# Altium footprint library Optopairs.PcbLib: 1 footprints
Each footprint in its own frame and in the unit in brackets; x right, y up, seen from the top. Pads: shape width x height; smd on the part's side, far side on the other; paste and mask are expansions set on the pad; w line width, h text height; cw(c..) or ccw(c..) is an arc to the next point about the centre after c.
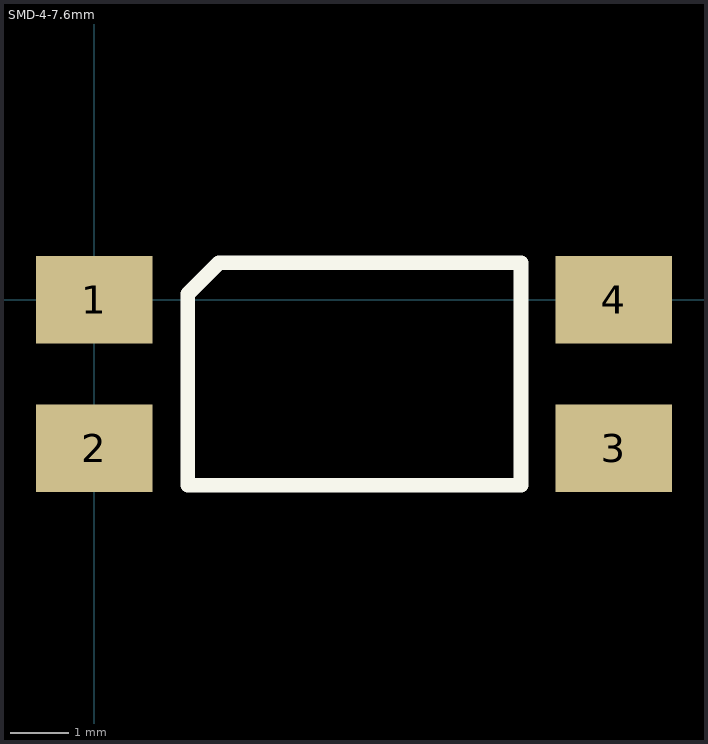
[diagram p0: the footprint, top view; thin cyan lines are the x and y axes]

## SMD-4-7.6mm [mm]
pads (4):
  rect 2x1.5 smd: 1(0,0) 2(0,-2.54) 3(8.89,-2.54) 4(8.89,0)
Top Overlay:
  lines w0.254: 1.6,-3.175 7.3,-3.175 7.3,0.635 2.135,0.635 1.6,0.1 1.6,-3.175